# EAGLE library part 61300625721 (library Eagle_BOARD-TO-BOARD_CONNECTORS (rev18b))
WR-PHD 2.54mm Dual Socket Header Bottom Entry, 6 Pins =>Code : Con_BTB_SHD_2.54_2_61300625721 <http://katalog.we-online.de/media/images/eican/Con_BTB_SHD_2.54_2_6130xx25721_pf2.jpg> Details see: http://katalog.we-online.de/en/em/613_0xx_257_21 Created 2014-05-30, Karrer Zheng 2014 (C) Würth Elektronik
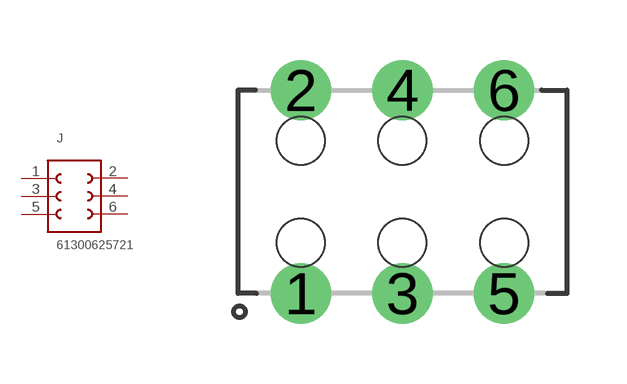
[diagram p152: symbol with the pads of 61300625721; footprint 61300625721]

Designator prefix J

## 61300625721  [61300625721]
1  1  pas
2  6  pas
3  2  pas
4  5  pas
5  3  pas
6  4  pas

## Footprint 61300625721 (pad centres in mm)
WR-PHD 2.54mm Dual Socket Header Bottom Entry, 6 Pins
drill 1 pad 1.4: 1 -2.54,-2.54; 2 -2.54,2.54; 3 0,-2.54; 4 0,2.54; 5 2.54,-2.54; 6 2.54,2.54
hole 1.2 at -2.54,1.27
hole 1.2 at 0,1.27
hole 1.2 at 0,-1.27
hole 1.2 at -2.54,-1.27
hole 1.2 at 2.54,-1.27
hole 1.2 at 2.54,1.27